# Altium footprint library RJ45.PcbLib: 5 footprints
Each footprint in its own frame and in the unit in brackets; x right, y up, seen from the top. Pads: shape width x height; smd on the part's side, far side on the other; paste and mask are expansions set on the pad; w line width, h text height; cw(c..) or ccw(c..) is an arc to the next point about the centre after c.
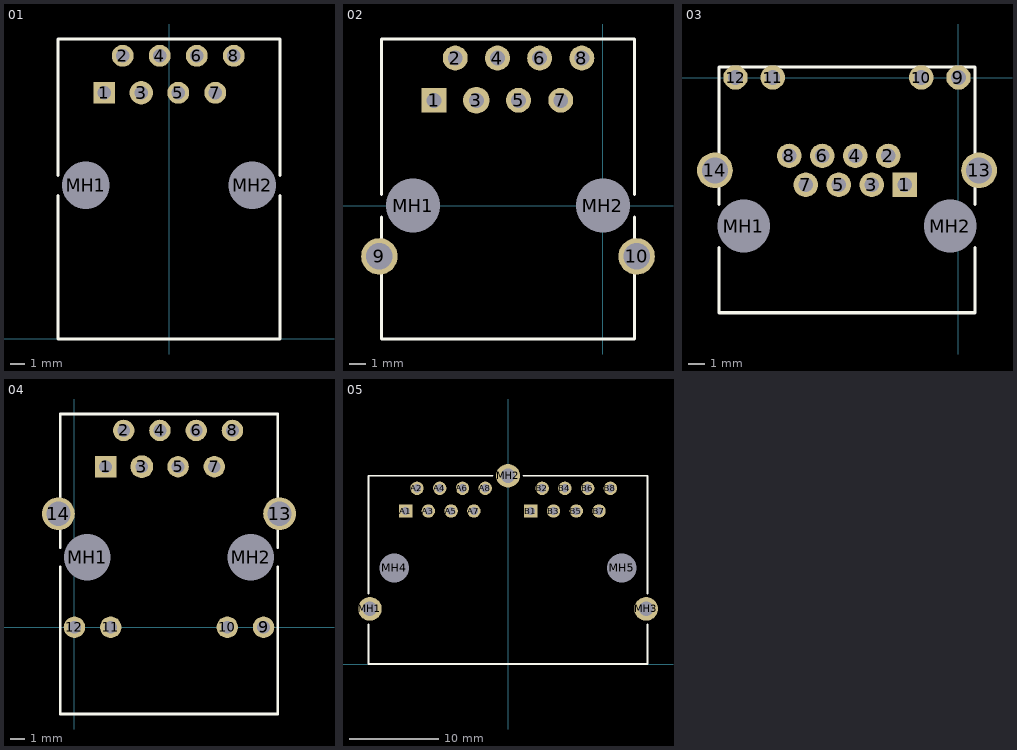
[diagram p0: the footprints below, top view; thin cyan lines are the x and y axes]

## 01 [mm] "Connector; PCB Jack, Thru-Hole; 1-Port; Unshielded without Lightpipes; Right Angle"
height 18.92
pads (10):
  rect 1.5x1.5 hole 0.9: 1(-4.445,16.89)
  round 1.5 hole 0.9: 2(-3.175,19.43) 4(-0.635,19.43) 5(0.635,16.89) 6(1.905,19.43) 7(3.175,16.89) 8(4.445,19.43)
  round 1.6 hole 0.9: 3(-1.905,16.89)
  round 2.95 hole 3.25 unplated: MH1(-5.715,10.54) MH2(5.715,10.54)
TopOverlay:
  lines w0.2: -7.62,9.853 -7.62,0 7.62,0 7.62,9.853 ; -7.62,11.227 -7.62,20.58 7.62,20.58 7.62,11.227
3D body "432498104.stp": height 12.91, standoff -3.47, extent -7.695,0.063 7.545,20.637

## 02 [mm] "Connector; PCB Jack, Thru-Hole; 1-Port; Unshielded without Lightpipes; Right Angle"
height 18.92
pads (12):
  rect 1.5x1.5 hole 0.9: 1(-10.16,6.35)
  round 1.5 hole 0.9: 2(-8.89,8.89) 4(-6.35,8.89) 5(-5.08,6.35) 6(-3.81,8.89) 7(-2.54,6.35) 8(-1.27,8.89)
  round 1.6 hole 0.9: 3(-7.62,6.35)
  round 2.2 hole 1.6: 9(-13.46,-3.05) 10(2.03,-3.05)
  round 2.95 hole 3.25 unplated: MH1(-11.43,0) MH2(0,0)
TopOverlay:
  lines w0.2: -13.335,-0.687 -13.335,-8.025 1.905,-8.025 1.905,-0.687 ; -13.335,0.687 -13.335,10.04 1.905,10.04 1.905,0.687
3D body "432028816.stp": height 11.53, standoff -4.24, extent -13.858,-8.097 2.5,10.547

## 03 [mm] "Connector; PCB Jack, Thru-Hole; 1-Port, 8 Positions, 8 Loaded; Unshielded without Lightpipes; Right Angle"
height 13.21
pads (16):
  rect 1.5x1.5 hole 0.9: 1(-3.304,-6.6)
  round 1.5 hole 0.9: 2(-4.32,-4.822) 3(-5.336,-6.6) 4(-6.352,-4.822) 5(-7.368,-6.6) 6(-8.384,-4.822) 7(-9.4,-6.6) 8(-10.416,-4.822) 9(0,0) 10(-2.29,0) 11(-11.43,0) 12(-13.72,0)
  round 2.2 hole 1.6: 13(1.27,-5.71) 14(-14.99,-5.71)
  round 2.95 hole 3.25 unplated: MH1(-13.21,-9.14) MH2(-0.51,-9.14)
TopOverlay:
  lines w0.2: -14.735,-10.472 -14.735,-14.47 1.015,-14.47 1.015,-10.472 ; -14.735,-7.808 -14.735,0.64 1.015,0.64 1.015,-7.808
3D body "RJHSE-5381_COLORED.step": height 14.82, standoff -4.02, extent -15.3,-14.895 1.53,1.308

## 04 [mm] "Connector; PCB Jack, Thru-Hole; 1-Port; Unshielded without Lightpipes; Right Angle"
height 18.92
pads (16):
  rect 1.5x1.5 hole 0.9: 1(2.18,11.25)
  round 1.5 hole 0.9: 2(3.45,13.79) 4(5.99,13.79) 5(7.26,11.25) 6(8.53,13.79) 7(9.8,11.25) 8(11.07,13.79) 9(13.25,0) 10(10.71,0) 11(2.54,0) 12(0,0)
  round 1.6 hole 0.9: 3(4.72,11.25)
  round 2.3 hole 1.7: 13(14.37,7.95) 14(-1.12,7.95)
  round 2.95 hole 3.25 unplated: MH1(0.91,4.9) MH2(12.34,4.9)
TopOverlay:
  lines w0.2: -0.995,4.213 -0.995,-6.075 14.245,-6.075 14.245,4.213 ; -0.995,5.587 -0.995,14.94 14.245,14.94 14.245,5.587
3D body "45857.stp": height 14.7, standoff -3.48, extent -2.573,-5.995 15.753,15.845

## 05 [mm] "Connector; PCB Jack, Thru-Hole; 2-Port, 8 Positions, 8 Loaded; Shielded without Lightpipes; Right Angle"
height 13.31
pads (21):
  rect 1.5x1.5 hole 0.9: A1(-11.43,17.09) B1(2.54,17.09)
  round 1.5 hole 0.9: A2(-10.16,19.63) A3(-8.89,17.09) A4(-7.62,19.63) A5(-6.35,17.09) A6(-5.08,19.63) A7(-3.81,17.09) A8(-2.54,19.63) B2(3.81,19.63) B3(5.08,17.09) B4(6.35,19.63) B5(7.62,17.09) B6(8.89,19.63) B7(10.16,17.09) B8(11.43,19.63)
  round 2.65 hole 1.6: MH1(-15.418,6.168) MH2(0,21.027) MH3(15.418,6.168)
  round 2.95 hole 3.25 unplated: MH4(-12.7,10.74) MH5(12.7,10.74)
TopOverlay:
  lines w0.2: -15.56,4.449 -15.56,0 15.56,0 15.56,4.449 ; -15.56,7.887 -15.56,21.02 -1.725,21.02 ; 1.725,21.02 15.56,21.02 15.56,7.887
3D body "43763.stp": height 13.55, standoff -3.6, extent -15.61,-0.235 15.52,21.035